# Altium schematic symbol library LED_RGB.SchLib: 1 symbol
Pins are listed as number, name and electrical type; pins without a type are passive.

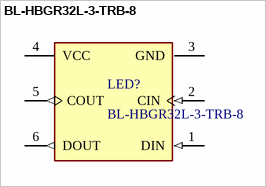
[diagram p0: symbol BL-HBGR32L-3-TRB-8]

## BL-HBGR32L-3-TRB-8
designator LED?
Address Led Discrete Serial Rgb; Manufacturer: American Bright; Supplier: DigiKey; Supplier Part Number: 2007-BL-HBGR32L-3-TRB-8CT-ND; Manufacturer Part Number: BL-HBGR32L-3-TRB-8; RoHS: Compliant; Category: Optoelectronics; Stock: 52650; Pricing: 1=1,57, 10=1,113, 100=0,8396, 500=0,7184, 1000=0,67881, 2000=0,64526, 3000=0,62806, 5000=0,60866, 7000=0,59712, 10000=0,58587 (USD); ComponentLink1URL: https://datasheet.octopart.com:443/BL-HBGR32L-3-TRB-8-American-Bright-datasheet-182526079.pdf?src-supplier=Future+Electronics; ComponentLink1Description: https://datasheet.octopart.com:443/BL-HBGR32L-3-TRB-8-American-Bright-datasheet-182526079.pdf?src-supplier=Future+Electronics; Supplier 1: DigiKey; Supplier Part Number 1: 2007-BL-HBGR32L-3-TRB-8CT-ND
footprint SOIC_LEDRGB
pins: 1 DIN (in), 2 CIN (in), 3 GND (power), 4 VCC (power), 5 COUT (out), 6 DOUT (out)